# EAGLE library part IRF7404 (library led-stuff)
HEXFET® P-Channel Power MOSFET Generation V Technology Ultra Low On-Resistance P-Channel Mosfet Surface Mount Available in Tape & Reel Dynamic dv/dt Rating Fast Switching
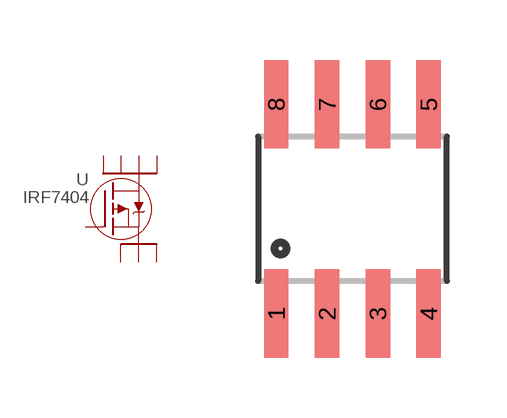
[diagram p6: symbol with the pads of SO08; footprint SO08]

Designator prefix -

## IRF7404  [SO08]
1  S
2  S
3  S
4  G
5  D
6  D
7  D
8  D

## Footprint SO08 (pad centres in mm)
Small Outline Package Fits JEDEC packages (narrow SOIC-8)
smd 0.61 x 2.21: 1 -1.905,-2.616; 2 -0.635,-2.616; 3 0.635,-2.616; 4 1.905,-2.616; 5 1.905,2.616; 6 0.635,2.616; 7 -0.635,2.616; 8 -1.905,2.616